# Altium schematic symbol library Mechanical Components.SchLib: 7 symbols
Pins are listed as number, name and electrical type; pins without a type are passive.

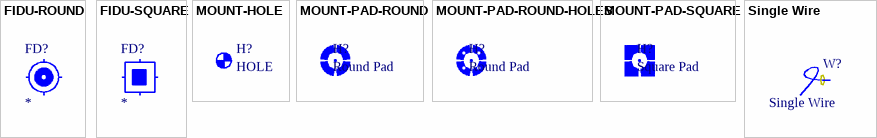
[diagram p0: symbols FIDU-ROUND to Single Wire]

## FIDU-ROUND
designator FD?  (no BOM)
ROUND FIDUCIAL
footprint FIDU-ROUND

## FIDU-SQUARE
designator FD?  (no BOM)
SQUARE FIDUCIAL
footprint FIDU-SQUARE

## MOUNT-HOLE
designator H?, comment HOLE  (no BOM)
MOUNTING HOLE with drill center marker
footprint P2.8 (MOUNTING HOLE 2.8 mm with drill center)
footprint P3.0 (MOUNTING HOLE 3.0 mm with drill center)
footprint P3.2 (MOUNTING HOLE 3.2 mm with drill center)
footprint P3.3 (MOUNTING HOLE 3.3 mm with drill center)
footprint P3.6 (MOUNTING HOLE 3.6 mm with drill center)
footprint P4.1 (MOUNTING HOLE 4.1 mm with drill center)
footprint P4.5 (MOUNTING HOLE 4.5 mm with drill center)
footprint P5.0 (MOUNTING HOLE 5.0 mm with drill center)
footprint P5.5 (MOUNTING HOLE 5.5 mm with drill center)
footprint P4.3 (MOUNTING HOLE 4.3 mm with drill center)

## MOUNT-PAD-ROUND
designator H?, comment Round Pad  (no BOM)
MOUNTING PAD, round
footprint P2.8C (MOUNTING PAD 2.8 mm, round, 5.3 mm Diameter)
footprint P3.0C (MOUNTING PAD 3.0 mm, round, 5.8 mm Diameter)
footprint P3.2C (MOUNTING PAD 3.2 mm, round, 5.8 mm Diameter)
footprint P3.3C (MOUNTING PAD 3.3 mm, round, 5.8 mm Diameter)
footprint P3.6C (MOUNTING PAD 3.6 mm, round, 5.8 mm Diameter)
footprint P4.1C (MOUNTING PAD 4.1 mm, round, 8.0 mm Diameter)
footprint P4.5C (MOUNTING PAD 4.5 mm, round, 9.0 mm Diameter)
footprint P5.0C (MOUNTING PAD 5.0 mm, round, 9.0 mm Diameter)
footprint P5.5C (MOUNTING PAD 5.5 mm, round, 9.0 mm Diameter)
footprint P4.3C (MOUNTING PAD 4.3 mm, round, 9.0 mm Diameter)
pins: P hidden to SHIELD

## MOUNT-PAD-ROUND-HOLES
designator H?, comment Round Pad  (no BOM)
MOUNTING PAD, round with holes around
footprint P2.8CH (MOUNTING PAD 2.8 mm, round, 5.3 mm Diameter; with Holes around it)
footprint P3.0CH (MOUNTING PAD 3.0 mm, round, 5.8 mm Diameter; with Holes around it)
footprint P3.2CH (MOUNTING PAD 3.2 mm, round, 5.8 mm Diameter; with Holes around it)
footprint P3.3CH (MOUNTING PAD 3.3 mm, round, 5.8 mm Diameter; with Holes around it)
footprint P3.6CH (MOUNTING PAD 3.6 mm, round, 5.8 mm Diameter; with Holes around it)
footprint P4.1CH (MOUNTING PAD 4.1 mm, round, 8.0 mm Diameter; with Holes around it)
footprint P4.5CH (MOUNTING PAD 4.5 mm, round, 9.0 mm Diameter; with Holes around it)
footprint P5.0CH (MOUNTING PAD 5.0 mm, round, 9.0 mm Diameter; with Holes around it)
footprint P5.5CH (MOUNTING PAD 5.5 mm, round, 9.0 mm Diameter; with Holes around it)
footprint P4.3CH (MOUNTING PAD 4.3 mm, round, 9.0 mm Diameter; with Holes around it)
pins: P Pad hidden to SHIELD

## MOUNT-PAD-SQUARE
designator H?, comment Square Pad  (no BOM)
MOUNTING PAD, square
footprint P2.8SQ (MOUNTING PAD 2.8 mm, square, 5.8x5.8 mm)
footprint P3.0SQ (MOUNTING PAD 3.0 mm, square, 5.8x5.8 mm)
footprint P3.2SQ (MOUNTING PAD 3.2 mm, square, 5.8x5.8 mm)
footprint P3.3SQ (MOUNTING PAD 3.3 mm, square, 5.8x5.8 mm)
footprint P3.6SQ (MOUNTING PAD 3.6 mm, square, 5.8x5.8 mm)
footprint P4.1SQ (MOUNTING PAD 4.1 mm, square, 9.0x9.0 mm)
footprint P4.5SQ (MOUNTING PAD 4.5 mm, square, 9.0x9.0 mm)
footprint P5.0SQ (MOUNTING PAD 5.0 mm, square, 9.0x9.0 mm)
footprint P5.5SQ (MOUNTING PAD 5.5 mm, square, 9.0x9.0 mm)
footprint P4.3SQ (MOUNTING PAD 4.3 mm, square, 9.0x9.0 mm)
pins: P Pad hidden to SHIELD

## Single Wire
designator W?  Diameter: Single Wire  (hidden comment: *)
A Customize Component For Single Wire Connection; Designer: Saeid Jorablo; Company: IPA Co; Adding Date: 1388/04/05; Color: Blue; Wire Name: *
footprint Wire 1.0 mm (Footprint not found)
footprint Wire 1.5 mm
footprint Wire 2.0 mm
pins: 1 W